# Altium schematic symbol library Diodes_EFR.SchLib: 43 symbols
Pins are listed as number, name and electrical type; pins without a type are passive.

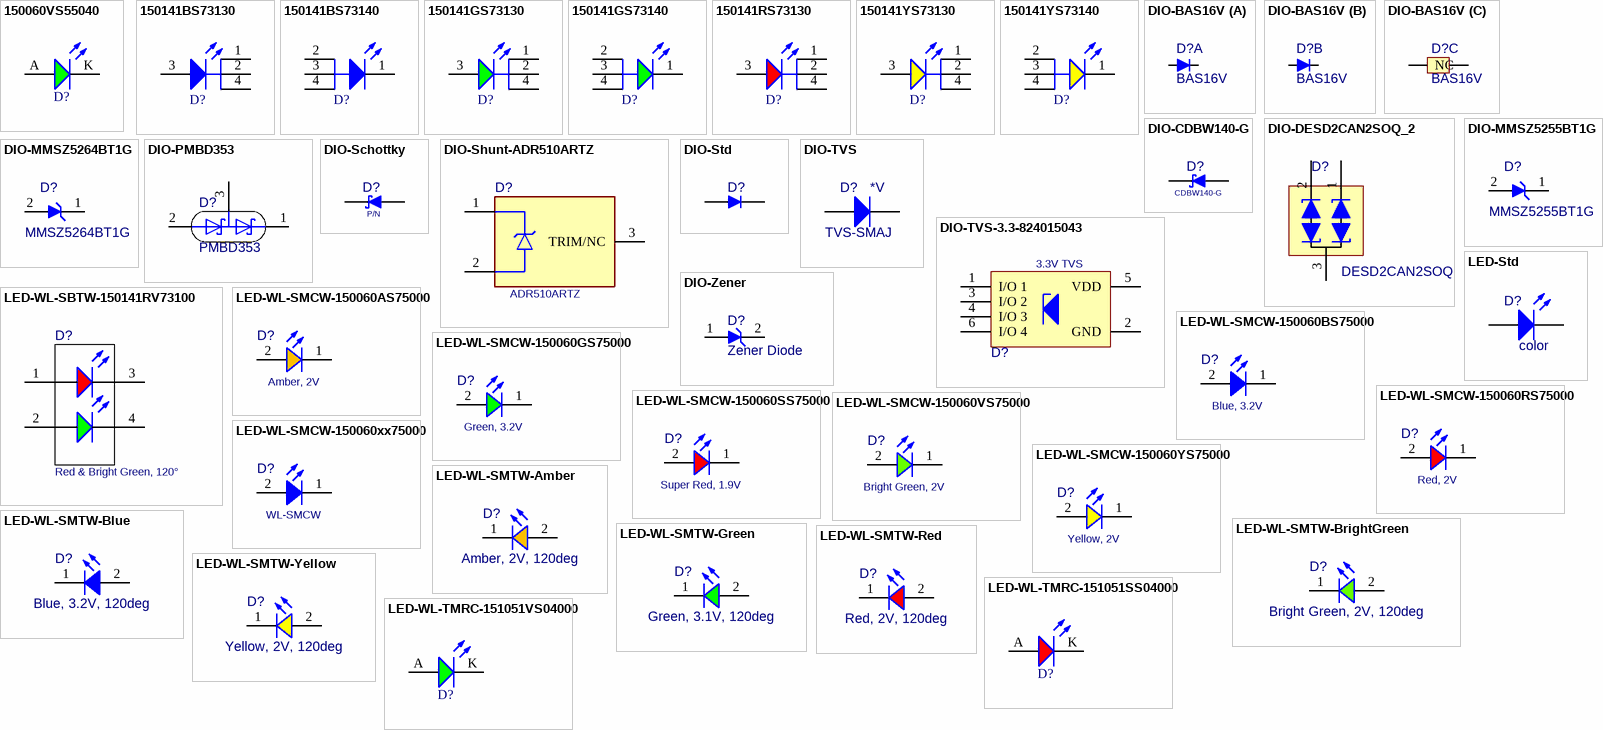
[diagram p0: symbols 150060VS55040 to LED-WL-TMRC-151051VS04000]

## 150060VS55040
designator D?, comment Bright Green, 2V, 140°  (value not drawn)
WL-SMCD Mono-color Chip LED Diffused, SMT, size 0603, Bright Green, 2V, 140°; Manufacturer Part Number: 150060VS55040; Manufacturer: Wurth Elektronik; Case/Size Code: 0603; Chip Technology: AlInGaP; Dominant Wavelength: 573nm; Luminous Intensity: 60mcd; Peak Wavelength: 575nm; Category: Signal LEDs; Match Code: WL-SMCD; ComponentLink1Description: Website Link; ComponentLink1URL: https://www.we-online.com/redexpert/article/150060VS55040?ad; ComponentLink2Description: Datasheet Link; ComponentLink2URL: https://www.we-online.com/redexpert/spec/150060VS55040?ad; Mount: Surface Mount; Operating Temperature Max: 85°C; Operating Temperature Min: -40°C; Packaging: Tape and Reel; Length: 1.6mm; Width: 0.8mm; Height: 0.4mm; Emitting Color: Bright Green; Forward Voltage: 2V; Viewing Angle: 140°
footprint WL-SMCD_0603 (SMD Mono-color Chip LED, body 1.6x0.8mm)
pins: A, K

## 150141BS73130
designator D?, comment Blue, 3.2V, 120°  (value not drawn)
WL-SMTW Mono-color TOP LED Waterclear, size 3528, Blue, 3.2V, 120°; Manufacturer Part Number: 150141BS73130; Manufacturer: Wurth Elektronik; Case/Size Code: 3528; Chip Technology: InGaN; Dominant Wavelength: 470nm; Luminous Intensity: 1000mcd; Peak Wavelength: 465nm; Category: Signal LEDs; Match Code: WL-SMTW; ComponentLink1Description: Website Link; ComponentLink1URL: https://www.we-online.com/redexpert/article/150141BS73130?ad; ComponentLink2Description: Datasheet Link; ComponentLink2URL: https://www.we-online.com/redexpert/spec/150141BS73130?ad; Mount: Surface Mount; Operating Temperature Max: 85°C; Operating Temperature Min: -40°C; Packaging: Tape and Reel; Length: 3.5mm; Width: 2.8mm; Height: 1.85mm; Emitting Color: Blue; Forward Voltage: 3.2V; Viewing Angle: 120°
footprint WL-SMTW_3528_LPCC 4
simulation model 3528_150141BS73130
pins: 1 K, 2 K, 3 A, 4 K

## 150141BS73140
designator D?, comment Blue, 3.2V, 120°  (value not drawn)
WL-SMTW Mono-color TOP LED Waterclear, size 3528, Blue, 3.2V, 120°; Manufacturer Part Number: 150141BS73140; Manufacturer: Wurth Elektronik; Case/Size Code: 3528; Chip Technology: InGaN; Dominant Wavelength: 470nm; Luminous Intensity: 1000mcd; Peak Wavelength: 465nm; Category: Signal LEDs; Match Code: WL-SMTW; ComponentLink1Description: Website Link; ComponentLink1URL: https://www.we-online.com/redexpert/article/150141BS73140?ad; ComponentLink2Description: Datasheet Link; ComponentLink2URL: https://www.we-online.com/redexpert/spec/150141BS73140?ad; Mount: Surface Mount; Operating Temperature Max: 85°C; Operating Temperature Min: -40°C; Packaging: Tape and Reel; Length: 3.5mm; Width: 2.8mm; Height: 1.85mm; Emitting Color: Blue; Forward Voltage: 3.2V; Viewing Angle: 120°
footprint WL-SMTW_3528_LPCC 4
simulation model 3528_150141BS73140
pins: 1 K, 2 A, 3 A, 4 A

## 150141GS73130
designator D?, comment Green, 3.2V, 120°  (value not drawn)
WL-SMTW Mono-color TOP LED Waterclear, size 3528, Green, 3.2V, 120°; Manufacturer Part Number: 150141GS73130; Manufacturer: Wurth Elektronik; Case/Size Code: 3528; Chip Technology: InGaN; Dominant Wavelength: 520nm; Luminous Intensity: 5000mcd; Peak Wavelength: 515nm; Category: Signal LEDs; Match Code: WL-SMTW; ComponentLink1Description: Website Link; ComponentLink1URL: https://www.we-online.com/redexpert/article/150141GS73130?ad; ComponentLink2Description: Datasheet Link; ComponentLink2URL: https://www.we-online.com/redexpert/spec/150141GS73130?ad; Mount: Surface Mount; Operating Temperature Max: 85°C; Operating Temperature Min: -40°C; Packaging: Tape and Reel; Length: 3.5mm; Width: 2.8mm; Height: 1.85mm; Emitting Color: Green; Forward Voltage: 3.2V; Viewing Angle: 120°
footprint WL-SMTW_3528_LPCC 4
simulation model 3528_150141GS73130
pins: 1 K, 2 K, 3 A, 4 K

## 150141GS73140
designator D?, comment Green, 3.2V, 120°  (value not drawn)
WL-SMTW Mono-color TOP LED Waterclear, size 3528, Green, 3.2V, 120°; Manufacturer Part Number: 150141GS73140; Manufacturer: Wurth Elektronik; Case/Size Code: 3528; Chip Technology: InGaN; Dominant Wavelength: 520nm; Luminous Intensity: 5000mcd; Peak Wavelength: 515nm; Category: Signal LEDs; Match Code: WL-SMTW; ComponentLink1Description: Website Link; ComponentLink1URL: https://www.we-online.com/redexpert/article/150141GS73140?ad; ComponentLink2Description: Datasheet Link; ComponentLink2URL: https://www.we-online.com/redexpert/spec/150141GS73140?ad; Mount: Surface Mount; Operating Temperature Max: 85°C; Operating Temperature Min: -40°C; Packaging: Tape and Reel; Length: 3.5mm; Width: 2.8mm; Height: 1.85mm; Emitting Color: Green; Forward Voltage: 3.2V; Viewing Angle: 120°
footprint WL-SMTW_3528_LPCC 4
simulation model 3528_150141GS73140
pins: 1 K, 2 A, 3 A, 4 A

## 150141RS73130
designator D?, comment Red, 2.4V, 120°  (value not drawn)
WL-SMTW Mono-color TOP LED Waterclear, size 3528, Red, 2.4V, 120°; Manufacturer Part Number: 150141RS73130; Manufacturer: Wurth Elektronik; Case/Size Code: 3528; Chip Technology: AlInGaP; Dominant Wavelength: 620nm; Luminous Intensity: 3000mcd; Peak Wavelength: 630nm; Category: Signal LEDs; Match Code: WL-SMTW; ComponentLink1Description: Website Link; ComponentLink1URL: https://www.we-online.com/redexpert/article/150141RS73130?ad; ComponentLink2Description: Datasheet Link; ComponentLink2URL: https://www.we-online.com/redexpert/spec/150141RS73130?ad; Mount: Surface Mount; Operating Temperature Max: 85°C; Operating Temperature Min: -40°C; Packaging: Tape and Reel; Length: 3.5mm; Width: 2.8mm; Height: 1.85mm; Emitting Color: Red; Forward Voltage: 2.4V; Viewing Angle: 120°
footprint WL-SMTW_3528_LPCC 4
simulation model 3528_150141RS73130
pins: 1 K, 2 K, 3 A, 4 K

## 150141YS73130
designator D?, comment Yellow, 2.4V, 120°  (value not drawn)
WL-SMTW Mono-color TOP LED Waterclear, size 3528, Yellow, 2.4V, 120°; Manufacturer Part Number: 150141YS73130; Manufacturer: Wurth Elektronik; Case/Size Code: 3528; Chip Technology: AlInGaP; Dominant Wavelength: 590nm; Luminous Intensity: 2000mcd; Peak Wavelength: 592nm; Category: Signal LEDs; Match Code: WL-SMTW; ComponentLink1Description: Website Link; ComponentLink1URL: https://www.we-online.com/redexpert/article/150141YS73130?ad; ComponentLink2Description: Datasheet Link; ComponentLink2URL: https://www.we-online.com/redexpert/spec/150141YS73130?ad; Mount: Surface Mount; Operating Temperature Max: 85°C; Operating Temperature Min: -40°C; Packaging: Tape and Reel; Length: 3.5mm; Width: 2.8mm; Height: 1.85mm; Emitting Color: Yellow; Forward Voltage: 2.4V; Viewing Angle: 120°
footprint WL-SMTW_3528_LPCC 4
simulation model 3528_150141YS73130
pins: 1 K, 2 K, 3 A, 4 K

## 150141YS73140
designator D?, comment Yellow, 2.4V, 120°  (value not drawn)
WL-SMTW Mono-color TOP LED Waterclear, size 3528, Yellow, 2.4V, 120°; Manufacturer Part Number: 150141YS73140; Manufacturer: Wurth Elektronik; Case/Size Code: 3528; Chip Technology: AlInGaP; Dominant Wavelength: 590nm; Luminous Intensity: 2000mcd; Peak Wavelength: 592nm; Category: Signal LEDs; Match Code: WL-SMTW; ComponentLink1Description: Website Link; ComponentLink1URL: https://www.we-online.com/redexpert/article/150141YS73140?ad; ComponentLink2Description: Datasheet Link; ComponentLink2URL: https://www.we-online.com/redexpert/spec/150141YS73140?ad; Mount: Surface Mount; Operating Temperature Max: 85°C; Operating Temperature Min: -40°C; Packaging: Tape and Reel; Length: 3.5mm; Width: 2.8mm; Height: 1.85mm; Emitting Color: Yellow; Forward Voltage: 2.4V; Viewing Angle: 120°
footprint WL-SMTW_3528_LPCC 4
simulation model 3528_150141YS73140
pins: 1 K, 2 A, 3 A, 4 A

## DIO-BAS16V
designator D?, comment BAS16V
Dual surface mount switching diode; PartNumber: BAS16V-7; Manufacturer: Diodes Incorporated; ComponentLink1Description: Datasheet; ComponentLink1URL: https://www.diodes.com/assets/Datasheets/ds30447.pdf; ComponentLink2Description: Manufacturer; ComponentLink2URL: https://www.diodes.com/part/view/BAS16V; Current (A): *; Resistance: *; Voltage (V): *; Type: *; Value: *; Tolerance: *; Power (W): *; Packaging: SOT-563; Capacitance: *
footprint SOT-5X3/SOT-563_L_(DRL6)
footprint SOT-5X3/SOT-563_N_(DRL6)
footprint SOT-5X3/SOT-563_M_(DRL6)
part A pins: 1 A1 "Anode1", 6 C1 "Kathode1"
part B pins: 3 C2 "Kathode2", 4 A2 "Anode2"
part C pins: 2 NC, 5 NC

## DIO-CDBW140-G
designator D?  PartNumber: CDBW140-G
DIODE SCHOTTKY 40V 1A SOD123; Manufacturer: Comchip; PinNumber: 2; Current (A): 1; Voltage (V): 40; Package: *; Resistance: *; Forward Current: *; Reverse Standoff Voltage (V): *; Breakdown Voltage (V): *; Clamping Voltage (V): *; Type: Schottky; Power (W): *; Tolerance: *; Capacitance: *; Supplier 1: Mouser; Manufacturer Part Number: CDBW140-G; RoHS: Yes; Category: Rectifier Diodes; Stock 1: 13668; Pricing 1: 1=0,41000, 10=0,26600, 50=0,26600, 100=0,11400, 1000=0,08200, 3000=0,06200, 10000=0,06200 (USD); Mount: Surface Mount; Package Quantity: 1; Packaging: Tape and Reel; Average Rectified Current: 1A; Max Reverse Voltage (DC): 40V; RoHS Compliant: Yes; ComponentLink1URL: https://datasheet.ciiva.com/6385/cdbw120-g20thru938266-20cdbw140-g20revd-6385394.pdf?src-supplier=Digi-Key; ComponentLink1Description: https://datasheet.ciiva.com/6385/cdbw120-g20thru938266-20cdbw140-g20revd-6385394.pdf?src-supplier=Digi-Key; Supplier 2: Digi-Key; Supplier Part Number 1: 750-CDBW140-G; Supplier Part Number 2: 641-1458-1-ND
footprint SOD-123
pins: 1, 2

## DIO-DESD2CAN2SOQ_2
designator D?, comment DESD2CAN2SOQ
CAN bus ESD protection diode; Manufacturer: Diodes Incorporated; Capacitance: 25pF; Voltage (V): 24; Clamping Voltage (V): 34; Breakdown Voltage (V): 28; Resistance: *; PartNumber: DESD2CAN2SOQ; Current (A): *; Power (W): *; Tolerance: *; Type: Diode; Value: *; Parameter 13: *; Reverse Standoff Voltage (V): 24; ComponentLink1Description: Datasheet; ComponentLink1URL: https://www.diodes.com/assets/Datasheets/DESD2CAN2SOQ.pdf
footprint SOT23 (generischer SOT23 Footpint)
pins: 1, 2, 3

## DIO-MMSZ5255BT1G
designator D?, comment MMSZ5255BT1G
MMSZ5255BT1 Series 500 mW 10 mA 28 V SMT Zener Voltage Regulator - SOD-123; Manufacturer: ON Semiconductor; Zener Voltage: 28V; Material: Plastic; Voltage Tolerance: 5%; Test Current: 2.1mA; Element Configuration: Single; ESD Protection: Yes; Max Power Dissipation: 500mW; Impedance: 44R; Max Reverse Leakage Current: 100nA; Forward Voltage: 900mV; Zener Current: 10mA; PartNumber: MMSZ5255BT1G; Category: Zener Diodes; Stock 1: 60719; Pricing 1: 1=0,24000, 10=0,19400, 100=0,10270, 500=0,06758, 1000=0,04595 (USD); Case/Package: SOD-123-2; Number of Pins: 2; Contact Plating: Tin,Matte; Min Operating Temperature: -55°C; Max Operating Temperature: 150°C; Packaging: Tape and Reel; Package Quantity: 1; Length: 2.84mm; Width: 1.8mm; Height: 1.25mm; Radiation Hardening: No; Lead Free: Lead Free; RoHS Compliant: Yes; ComponentLink1URL: https://www.onsemi.com/products/discrete-power-modules/zener-diodes/mmsz52; ComponentLink1Description: Manufacturer; ComponentLink2URL: https://www.onsemi.com/pdf/datasheet/mmsz5221bt1-d.pdf; ComponentLink2Description: Datasheet; ComponentLink3URL: https://www.onsemi.com/products/discrete-power-modules/zener-diodes/mmsz52?pdf=Y; ComponentLink3Description: Product Overview; Supplier 1: Digi-Key; Supplier 2: Mouser; REACH SVHC: No SVHC; Tolerance: 5%; Voltage Rating (DC): 28V; Power Rating: 500mW; Power Dissipation: 500mW; Working Voltage: 28V; Max Reverse Current: 100nA; RoHS: Yes; Supplier Part Number 1: MMSZ5255BT1GOSCT-ND; Supplier Part Number 2: 863-MMSZ5255BT1G
footprint SOD-123-2 (1 marked) (SOD, 2-Leads, Body 2.69x1.6mm)
pins: 1 C, 2 A

## DIO-MMSZ5264BT1G
designator D?, comment MMSZ5264BT1G
Zener Diode 60V 500mW ±5% Surface Mount SOD-123; Manufacturer: ON Semiconductor; Material: Plastic; Impedance: 170R; Forward Voltage: 900mV; Max Reverse Leakage Current: 100nA; Zener Current: 10mA; Test Current: 2.1mA; Element Configuration: Single; ESD Protection: Yes; Supplier 1: Arrow Electronics; PartNumber: MMSZ5264BT1G; RoHS: Yes; Category: Zener Diodes; Stock 1: 144; Pricing 1: 1=0,21510, 10=0,17860, 25=0,17810, 100=0,09820 (USD); Case/Package: SOD-123-2; Number of Pins: 2; Contact Plating: Tin,Matte; Min Operating Temperature: -55°C; Max Operating Temperature: 150°C; Tolerance: 5%; Max Power Dissipation: 500mW; Packaging: Tape and Reel; Zener Voltage: 60V; Package Quantity: 1; Voltage Tolerance: 5%; Power Dissipation: 500mW; Working Voltage: 60V; Max Reverse Current: 100nA; Voltage Rating (DC): 60V; Power Rating: 500mW; Length: 2.84mm; Width: 1.8mm; Height: 1.25mm; Radiation Hardening: No; Lead Free: Lead Free; RoHS Compliant: Yes; ComponentLink1URL: https://www.onsemi.com/products/discrete-power-modules/zener-diodes/mmsz52; ComponentLink1Description: Manufacturer; ComponentLink2URL: https://www.onsemi.com/pdf/datasheet/mmsz5221bt1-d.pdf; ComponentLink2Description: Datasheet; ComponentLink3URL: https://www.onsemi.com/products/discrete-power-modules/zener-diodes/mmsz52?pdf=Y; ComponentLink3Description: Product Overview; Supplier Part Number 1: MMSZ5264BT1G
footprint SOD-123-2 (1 marked) (SOD, 2-Leads, Body 2.69x1.6mm)
pins: 1 C, 2 A

## DIO-PMBD353
designator D?, comment PMBD353
RF Diode Schottky - 1 Pair Series Connection 4V 30mA TO-236AB; Manufacturer: NXP Semiconductors; PartNumber: PMBD353; Value: *; SnapEDA_Link: https://www.snapeda.com/parts/PMBD353/NXP%20Semiconductors/view-part/571374/?ref=snap; Price: None; Availability: Unavailable; Package: SOT-23 NXP Semiconductors; ComponentLink1Description: Datasheet; ComponentLink1URL: https://assets.nexperia.com/documents/data-sheet/PMBD353.pdf; ComponentLink2Description: Manufacturer; ComponentLink2URL: https://www.nexperia.com/products/diodes/automotive-diodes/automotive-schottky-diodes-and-rectifiers/automotive-low-capacitance-schottky-diodes/PMBD353.html
footprint SOT23 (generischer SOT23 Footpint)
pins: 1 K2, 2 A2, 3 K1A2

## DIO-Schottky
designator D?, comment Manufacturer P/N: P/N  (hidden comment: Schottky)
Schottky Diode; PinNumber: 2; Package: *; Resistance: *; Forward Current: *; Reverse Standoff Voltage (V): *; Breakdown Voltage (V): *; Clamping Voltage (V): *; Current (A): *; Type: Schottky; Voltage (V): *; Power (W): *; Tolerance: *; Capacitance: *; Manufacturer: *
footprint SOD-123W
footprint SOD-123F
footprint SOD-323 (SOD, 2-Leads, Body 1.7x1.25mm)
pins: 1, 2

## DIO-Shunt-ADR510ARTZ
designator D?, comment ADR510ARTZ
1.0V Precision Low Noise Shunt Voltage Reference ±0.35% 10 mA SOT-23-3; Manufacturer: Analog Devices; Pin Number: 3; Package: SOT-23; Manufacturer P/N: ADR510ARTZ; ComponentLink1Description: Website; ComponentLink1URL: https://www.analog.com/en/products/adr510.html; ComponentLink2Description: Datasheet; ComponentLink2URL: https://www.analog.com/media/en/technical-documentation/data-sheets/ADR510.pdf; ComponentLink3Description: SnapEDA; ComponentLink3URL: https://www.snapeda.com/parts/ADR510ARTZ-REEL7/Analog%20Devices/view-part/; Mounting Technology: SMT; Supplier 1: Mouser; Supplier Part Number 1: 584-ADR510ARTZ-R7; Supplier 2: Mouser; Supplier Part Number 2: 584-ADR510ARTZ-R2
footprint SOT23 (generischer SOT23 Footpint)
pins: 1 V+, 2 V-, 3 TRIM/NC

## DIO-Std
designator D?, comment Diode  (value not drawn)
Diode, allg.; PinNumber: 2; Package: *; Type: *; Tolerance: *; Power (W): *; Current (A): *; Voltage (V): *; Reverse Standoff Voltage (V): *; Clamping Voltage (V): *; Breakdown Voltage (V): *; Resistance: *; Capacitance: *
footprint SOD-123
footprint SOD-123W
footprint SMA-DO-214AC (Molded Diode, 2-Leads, Body 4,3x2,7mm, IPC Medium Density)
footprint SOD-123F
pins: 1 "Anode", 2 "Cathode"

## DIO-TVS
designator D?, comment TVS-SMAJ  VWM (V): *V
Manufacturer: Vishay Semiconductor; VBR Uni-Directional (V): 6.4 to 231; IFSM: 40 A; ID (uA): 1; Packing: Tape and Reel; PPPM (W): 400, 300; Mounting Technology: SMT; ComponentLink3URL: http://www.vishay.com/docs/88390/smaj50a.pdf; ComponentLink1Description: Manufacturer URL; ComponentLink1URL: http://www.vishay.com/; PackageDescription: 2-Pin DO-214AC (SMA), Body 4.245 x 2.665 mm; PackageReference: DO-214AC-2; ComponentLink3Description: Package Specification; ComponentLink2Description: Datasheet; ComponentLink2URL: http://www.vishay.com/docs/88390/smaj50a.pdf; Power (W): *; Current (A): *; Capacitance: *; Voltage (V): *; Tolerance: *; Type: *; Resistance: *; Value: *
footprint DO-214AC-2_L (DO-214AC, 2-Leads, Body 4.5x2.79mm, IPC High Density)
footprint DO-214AC-2_N (DO-214AC, 2-Leads, Body 4.5x2.79mm, IPC Medium Density)
footprint DO-214AC-2_M (DO-214AC, 2-Leads, Body 4.5x2.79mm, IPC Low Density)
pins: 1 K, 2 A

## DIO-TVS-3.3-824015043
designator D?, comment 3.3V TVS
WE-TVS TVS Diode – High Speed Series, SOT23-6L, 4+1 Channel, 3.3V, 2pF; Manufacturer P/N: 824015043; Manufacturer: Wurth Elektronik; Channel ESD Clamping Voltage: 7.5V; Channel Reverse Leakage Current: 1µA; ESD Air Discharge Capability: 30kV; Polarity: Unidirectional; (Reverse) Breakdown Voltage: 4.5V; (Reverse) Peak Pulse Current: 30A; ComponentLink1Description: Website Link; ComponentLink1URL: https://www.we-online.com/redexpert/article/824015043?ad; ComponentLink2Description: Datasheet Link; ComponentLink2URL: https://www.we-online.com/redexpert/spec/824015043?ad; Category: ESD Protection; Match Code: WE-TVS; Mounting Technology: SMT; Operating Temperature Max: 125°C; Operating Temperature Min: -55°C; Packaging: Tape and Reel; Case/Size Code: SOT23-6L; Length: 2.9mm; Width: 2.8mm; Height: 1.45mm; Channel Input Capacitance: 2pF; Channel Operating Voltage: 3.3V; ESD Contact Discharge Capability: 30kV; Number of Channels: 4+1
footprint SOT23-6_L
footprint SOT23-6_M
footprint SOT23-6_N
pins: 1 I/O 1, 2 GND, 3 I/O 2, 4 I/O 3, 5 VDD, 6 I/O 4

## DIO-Zener
designator D?, comment Zener Diode
Manufacturer P/N: *; Packaging: *; Manufacturer: *; Power (W): *; Current (A): *; Voltage (V): *; Type: Zener; Tolerance: *; Capacitance: *; Resistance: *; Value: *; Clamping Voltage (V): *; Breakdown Voltage (V): *; Reverse Standoff Voltage (V): *
footprint SOD-323 (Footprint not found)
footprint SODFL2513X70N
footprint DO-219AC
footprint SMA-DO-214AC (Molded Diode, 2-Leads, Body 4,3x2,7mm, IPC Medium Density)
pins: 1 A, 2 K

## LED-Std
designator D?
LED; Manufacturer: *; Manufacturer P/N: *; Value: *; Current (A): *; Power (W): *; Type: LED; Voltage (V): *; Resistance: *; Capacitance: *; Tolerance: *; Reverse Standoff Voltage (V): *; Breakdown Voltage (V): *; Clamping Voltage (V): *; Color: color
footprint 0603_L
footprint 0603_N
footprint 0603_M
footprint 0805_L
footprint 0805_N
footprint 0805_M
pins: 1 K, 2 A

## LED-WL-SBTW-150141RV73100
designator D?, comment Red & Bright Green, 120°
WL-SBTW SMT Bi-color TOP LED Waterclear, size 3528, Red & Bright Green, 120°; Manufacturer P/N: 150141RV73100; Manufacturer: Wurth Elektronik; Case/Size Code: 3528; Chip Technology: AlInGaP; Dominant Wavelength (Bright Green): 570nm; Dominant Wavelength (Red): 625nm; Forward Voltage (Bright Green): 2V; Luminous Intensity (Bright Green): 60mcd; Luminous Intensity (Red): 250mcd; Peak Wavelength (Bright Green): 572nm; Peak Wavelength (Red): 630nm; Category: Signal LEDs; Series: WL-SBTW; ComponentLink1Description: Website Link; ComponentLink1URL: https://www.we-online.com/redexpert/article/150141RV73100?ad; ComponentLink2Description: Datasheet Link; ComponentLink2URL: https://www.we-online.com/redexpert/spec/150141RV73100?ad; Mounting Technology: SMT; Operating Temperature Max: 85°C; Operating Temperature Min: -40°C; Packaging: Tape and Reel; Length: 3.5mm; Width: 2.8mm; Height: 1.9mm; Color: Red & Bright Green; Forward Voltage (Red): 2V; Viewing Angle: 120°
footprint WL-SBTW_3528 (SMD Bi-color TOP LED, body 3.2x2.8mm)
simulation model 3528_150141RV73100
pins: 1 A, 2 A, 3 K, 4 K

## LED-WL-SMCW-150060AS75000
designator D?, comment Amber, 2V
WL-SMCW SMT Mono-color Chip LED Waterclear, size 0603, Amber, 2V, 140deg; PartNumber: 150060AS75000; Manufacturer: Wurth Elektronik; Chip Technology: AlInGaP; Dominant Wavelength typ.: 605nm; Luminous Intensity typ.: 130mcd; Peak Wavelength typ.: 610nm; Viewing Angle: 140deg; ComponentLink1Description: Manufacturer; ComponentLink1URL: http://www.we-online.de; ComponentLink2URL: https://www.we-online.com/catalog/datasheet/150060AS75000.pdf; ComponentLink2Description: Datasheet; Forward Voltage typ.: 2V; Emitting Color: Amber; Mounting Technology: SMT; Operating Temperature: -40 to +85degC; Published Date: December 2019; Packaging: Tape and Reel; Size: 0603
footprint LED_WL-SMCW_0603_H=0.7mm (SMD Mono-color Chip LED, body 1.6x0.8mm)
pins: 1 K, 2 A

## LED-WL-SMCW-150060BS75000
designator D?, comment Blue, 3.2V
WL-SMCW SMT Mono-color Chip LED Waterclear, size 0603, Blue, 3.2V, 140deg; PartNumber: 150060BS75000; Manufacturer: Wurth Elektronik; Chip Technology: InGaN; Dominant Wavelength typ.: 470nm; Luminous Intensity typ.: 145mcd; Peak Wavelength typ.: 465nm; Viewing Angle: 140deg; ComponentLink1Description: Manufacturer; ComponentLink1URL: http://www.we-online.de; ComponentLink2URL: https://www.we-online.com/catalog/datasheet/150060BS75000.pdf; ComponentLink2Description: Datasheet; Forward Voltage typ.: 3.2V; Emitting Color: Blue; Mounting Technology: SMT; Operating Temperature: -40 to +85degC; Published Date: December 2019; Packaging: Tape and Reel; Size: 0603
footprint LED_WL-SMCW_0603_H=0.7mm (SMD Mono-color Chip LED, body 1.6x0.8mm)
pins: 1 K, 2 A

## LED-WL-SMCW-150060GS75000
designator D?, comment Green, 3.2V
WL-SMCW SMT Mono-color Chip LED Waterclear, size 0603, Green, 3.2V, 140deg; Part Number: 150060GS75000; Manufacturer: Wurth Elektronik; Chip Technology: InGaN; Dominant Wavelength typ.: 525nm; Luminous Intensity typ.: 430mcd; Peak Wavelength typ.: 515nm; Viewing Angle: 140deg; ComponentLink1Description: Manufacturer; ComponentLink1URL: http://www.we-online.de; ComponentLink2URL: https://www.we-online.com/catalog/datasheet/150060GS75000.pdf; ComponentLink2Description: Datasheet; Forward Voltage typ.: 3.2V; Emitting Color: Green; Mounting Technology: SMT; Operating Temperature: -40 to +85degC; Published Date: December 2019; Packaging: Tape and Reel; Size: 0603
footprint LED_WL-SMCW_0603_H=0.7mm (SMD Mono-color Chip LED, body 1.6x0.8mm)
pins: 1 K, 2 A

## LED-WL-SMCW-150060RS75000
designator D?, comment Red, 2V
WL-SMCW SMT Mono-color Chip LED Waterclear, size 0603, Red, 2V, 140deg; PartNumber: 150060RS75000; Manufacturer: Wurth Elektronik; Chip Technology: AlInGaP; Dominant Wavelength typ.: 625nm; Luminous Intensity typ.: 250mcd; Peak Wavelength typ.: 630nm; Viewing Angle: 140deg; ComponentLink1Description: Manufacturer; ComponentLink1URL: http://www.we-online.de; ComponentLink2URL: https://www.we-online.com/catalog/datasheet/150060RS75000.pdf; ComponentLink2Description: Datasheet; Forward Voltage typ.: 2V; Emitting Color: Red; Mounting Technology: SMT; Operating Temperature: -40 to +85degC; Published Date: December 2019; Packaging: Tape and Reel; Size: 0603
footprint LED_WL-SMCW_0603_H=0.7mm (SMD Mono-color Chip LED, body 1.6x0.8mm)
pins: 1 K, 2 A

## LED-WL-SMCW-150060SS75000
designator D?, comment Super Red, 1.9V
WL-SMCW SMT Mono-color Chip LED Waterclear, size 0603, Super Red, 1.9V, 140deg; PartNumber: 150060SS75000; Manufacturer: Wurth Elektronik; Chip Technology: AlInGaP; Dominant Wavelength typ.: 630nm; Luminous Intensity typ.: 60mcd; Peak Wavelength typ.: 645nm; Viewing Angle: 140deg; ComponentLink1Description: Manufacturer; ComponentLink1URL: http://www.we-online.de; ComponentLink2URL: https://www.we-online.com/catalog/datasheet/150060SS75000.pdf; ComponentLink2Description: Datasheet; Forward Voltage typ.: 1.9V; Emitting Color: Super Red; Mounting Technology: SMT; Operating Temperature: -40 to +85degC; Published Date: December 2019; Packaging: Tape and Reel; Size: 0603
footprint LED_WL-SMCW_0603_H=0.7mm (SMD Mono-color Chip LED, body 1.6x0.8mm)
pins: 1 K, 2 A

## LED-WL-SMCW-150060VS75000
designator D?, comment Bright Green, 2V
WL-SMCW SMT Mono-color Chip LED Waterclear, size 0603, Bright Green, 2V, 140deg; Part Number: 150060VS75000; Manufacturer: Wurth Elektronik; Chip Technology: AlInGaP; Dominant Wavelength typ.: 570nm; Luminous Intensity typ.: 40mcd; Peak Wavelength typ.: 572nm; Viewing Angle: 140deg; ComponentLink1Description: Manufacturer; ComponentLink1URL: http://www.we-online.de; ComponentLink2URL: https://www.we-online.com/catalog/datasheet/150060VS75000.pdf; ComponentLink2Description: Datasheet; Forward Voltage typ.: 2V; Emitting Color: Bright Green; Mounting Technology: SMT; Operating Temperature: -40 to +85degC; Published Date: December 2019; Packaging: Tape and Reel; Size: 0603
footprint LED_WL-SMCW_0603_H=0.7mm (SMD Mono-color Chip LED, body 1.6x0.8mm)
pins: 1 K, 2 A

## LED-WL-SMCW-150060xx75000
designator D?, comment WL-SMCW
WL-SMCW SMT Mono-color Chip LED Waterclear, size 0603, Universal LED, 140deg; PartNumber: 150060xx75000; Manufacturer: Wurth Elektronik; Chip Technology: InGaN; Dominant Wavelength typ.: 470nm; Luminous Intensity typ.: 145mcd; Peak Wavelength typ.: 465nm; Viewing Angle: 140deg; ComponentLink1Description: Manufacturer; ComponentLink1URL: http://www.we-online.de; ComponentLink2URL: https://www.we-online.com/catalog/datasheet/150060BS75000.pdf; ComponentLink2Description: Datasheet; Forward Voltage typ.: *; Emitting Color: *; Mounting Technology: SMT; Operating Temperature: -40 to +85degC; Published Date: December 2019; Packaging: Tape and Reel; Size: 0603; Voltage (V): *
footprint LED_WL-SMCW_0603_H=0.7mm (SMD Mono-color Chip LED, body 1.6x0.8mm)
pins: 1 K, 2 A

## LED-WL-SMCW-150060YS75000
designator D?, comment Yellow, 2V
WL-SMCW SMT Mono-color Chip LED Waterclear, size 0603, Yellow, 2V, 140deg; Part Number: 150060YS75000; Manufacturer: Wurth Elektronik; Chip Technology: AlInGaP; Dominant Wavelength typ.: 590nm; Luminous Intensity typ.: 120mcd; Peak Wavelength typ.: 595nm; Viewing Angle: 140deg; ComponentLink1Description: Manufacturer; ComponentLink1URL: http://www.we-online.de; ComponentLink2URL: https://www.we-online.com/catalog/datasheet/150060YS75000.pdf; ComponentLink2Description: Datasheet; Forward Voltage typ.: 2V; Emitting Color: Yellow; Mounting Technology: SMT; Operating Temperature: -40 to +85degC; Published Date: December 2019; Packaging: Tape and Reel; Size: 0603
footprint LED_WL-SMCW_0603_H=0.7mm (SMD Mono-color Chip LED, body 1.6x0.8mm)
pins: 1 K, 2 A

## LED-WL-SMTW-Amber
designator D?, comment Amber, 2V, 120deg
WL-SMTW SMT Mono-color TOP LED Waterclear, Amber, 2V, 120deg; PartNumber: 150141AS73100; Manufacturer: Wurth Elektronik; Luminous Intensity: 330mcd; Dominant Wavelength: 605nm; Peak Wavelength: 610nm; Chip Technology: AlInGaP; ComponentLink1Description: Manufacturer; ComponentLink1URL: http://www.we-online.de; ComponentLink2Description: Datasheet; ComponentLink2URL: https://katalog.we-online.de/led/datasheet/150141AS73100.pdf; Emitting Color: Amber; Operating Temperature: -40 to +85degC; Mounting Technology: SMT; Forward Voltage (V): 2V; Published Date: October 2019; Viewing Angle: 120deg; Type: *; Resistance: *; Power (W): *; Current (A): *; Voltage (V): 2V; Capacitance: *; Tolerance: *; Value: Amber
footprint WL-SMTW_1411(3528) (SMD Mono-color TOP LED, body 3.2x2.8mm)
footprint WL-SMTW_0906(2214) (SMD Mono-color TOP LED, body 2x1.4mm)
footprint WL-SMTW_1411(3528)_Advance (SMD Mono-color TOP LED, body 3.2x2.8mm)
pins: 1 K, 2 A

## LED-WL-SMTW-Blue
designator D?, comment Blue, 3.2V, 120deg
WL-SMTW SMT Mono-color TOP LED Waterclear, Blue, 3.2V, 120deg; PartNumber: 150141BS73100; Manufacturer: Wurth Elektronik; Luminous Intensity: 270mcd; Dominant Wavelength: 470nm; Peak Wavelength: 465nm; Chip Technology: InGaN; ComponentLink1Description: Manufacturer; ComponentLink1URL: http://www.we-online.de; ComponentLink2Description: Datasheet; ComponentLink2URL: https://katalog.we-online.de/led/datasheet/150141BS73100.pdf; Emitting Color: Blue; Operating Temperature: -40 to +85degC; Mounting Technology: SMT; Forward Voltage (V): 3.2V; Published Date: October 2019; Viewing Angle: 120deg; Value: Blue; Voltage (V): 3.2V; Capacitance: *; Resistance: *; Power (W): *; Current (A): *; Type: LED; Tolerance: *
footprint WL-SMTW_0906(2214) (SMD Mono-color TOP LED, body 2x1.4mm)
footprint WL-SMTW_1411(3528) (SMD Mono-color TOP LED, body 3.2x2.8mm)
footprint WL-SMTW_1411(3528)_Advance (SMD Mono-color TOP LED, body 3.2x2.8mm)
pins: 1 K, 2 A

## LED-WL-SMTW-BrightGreen
designator D?, comment Bright Green, 2V, 120deg
WL-SMTW SMT Mono-color TOP LED Waterclear, Bright Green, 2V, 120deg; PartNumber: 150141VS73100; Manufacturer: Wurth Elektronik; Luminous Intensity: 90mcd; Dominant Wavelength: 570nm; Peak Wavelength: 572nm; Chip Technology: AlInGaP; ComponentLink1Description: Manufacturer; ComponentLink1URL: http://www.we-online.de; ComponentLink2Description: Datasheet; ComponentLink2URL: https://katalog.we-online.de/led/datasheet/150141VS73100.pdf; Emitting Color: Bright Green; Operating Temperature: -40 to +85degC; Mounting Technology: SMT; Forward Voltage (V): 2V; Published Date: October 2019; Viewing Angle: 120deg; Value: Bright Green; Voltage (V): 2V; Power (W): *; Type: LED; Current (A): *; Resistance: *; Tolerance: *; Capacitance: *
footprint WL-SMTW_0906(2214) (SMD Mono-color TOP LED, body 2x1.4mm)
footprint WL-SMTW_1411(3528) (SMD Mono-color TOP LED, body 3.2x2.8mm)
footprint WL-SMTW_1411(3528)_Advance (SMD Mono-color TOP LED, body 3.2x2.8mm)
pins: 1 K, 2 A

## LED-WL-SMTW-Green
designator D?, comment Green, 3.1V, 120deg
WL-SMTW SMT Mono-color TOP LED Waterclear, Green, 3.1V, 120deg; PartNumber: 150141GS73100; Manufacturer: Wurth Elektronik; Luminous Intensity: 1000mcd; Dominant Wavelength: 525nm; Peak Wavelength: 515nm; Chip Technology: InGaN; ComponentLink1Description: Manufacturer; ComponentLink1URL: http://www.we-online.de; ComponentLink2Description: Datasheet; ComponentLink2URL: https://katalog.we-online.de/led/datasheet/150141GS73100.pdf; Emitting Color: Green; Operating Temperature: -40 to +85degC; Mounting Technology: SMT; Forward Voltage (V): 3.1V; Published Date: October 2019; Viewing Angle: 120deg; Type: LED; Capacitance: *; Tolerance: *; Voltage (V): 3.1V; Power (W): *; Resistance: *; Current (A): *; Value: Green
footprint WL-SMTW_0906(2214) (SMD Mono-color TOP LED, body 2x1.4mm)
footprint WL-SMTW_1411(3528) (SMD Mono-color TOP LED, body 3.2x2.8mm)
footprint WL-SMTW_1411(3528)_Advance (SMD Mono-color TOP LED, body 3.2x2.8mm)
pins: 1 K, 2 A

## LED-WL-SMTW-Red
designator D?, comment Red, 2V, 120deg
WL-SMTW SMT Mono-color TOP LED Waterclear, Red, 2V, 120deg; PartNumber: 150141RS73100; Manufacturer: Wurth Elektronik; Luminous Intensity: 300mcd; Dominant Wavelength: 625nm; Peak Wavelength: 630nm; Chip Technology: AlInGaP; ComponentLink1Description: Manufacturer; ComponentLink1URL: http://www.we-online.de; ComponentLink2Description: Datasheet; ComponentLink2URL: https://katalog.we-online.de/led/datasheet/150141RS73100.pdf; Emitting Color: Red; Operating Temperature: -40 to +85degC; Mounting Technology: SMT; Forward Voltage (V): 2V; Published Date: October 2019; Viewing Angle: 120deg; Tolerance: *; Value: Red; Voltage (V): 2V; Type: LED; Current (A): *; Power (W): *; Capacitance: *; Resistance: *
footprint WL-SMTW_0906(2214) (SMD Mono-color TOP LED, body 2x1.4mm)
footprint WL-SMTW_1411(3528) (SMD Mono-color TOP LED, body 3.2x2.8mm)
footprint WL-SMTW_1411(3528)_Advance (SMD Mono-color TOP LED, body 3.2x2.8mm)
pins: 1 K, 2 A

## LED-WL-SMTW-Yellow
designator D?, comment Yellow, 2V, 120deg
WL-SMTW SMT Mono-color TOP LED Waterclear, Yellow, 2V, 120deg; PartNumber: 150141YS73100; Manufacturer: Wurth Elektronik; Luminous Intensity: 260mcd; Dominant Wavelength: 590nm; Peak Wavelength: 592nm; Chip Technology: AlInGaP; ComponentLink1Description: Manufacturer; ComponentLink1URL: http://www.we-online.de; ComponentLink2Description: Datasheet; ComponentLink2URL: https://katalog.we-online.de/led/datasheet/150141YS73100.pdf; Emitting Color: Yellow; Operating Temperature: -40 to +85degC; Mounting Technology: SMT; Forward Voltage (V): 2V; Published Date: October 2019; Viewing Angle: 120deg; Capacitance: *; Power (W): *; Value: Yellow; Voltage (V): 2V; Resistance: *; Type: LED; Current (A): *; Tolerance: *
footprint WL-SMTW_0906(2214) (SMD Mono-color TOP LED, body 2x1.4mm)
footprint WL-SMTW_1411(3528) (SMD Mono-color TOP LED, body 3.2x2.8mm)
footprint WL-SMTW_1411(3528)_Advance (SMD Mono-color TOP LED, body 3.2x2.8mm)
pins: 1 K, 2 A

## LED-WL-TMRC-151051SS04000
designator D?, comment Super Red, 2.1V, 40°  (value not drawn)
WL-TMRC Mono-color Round Color, THT, D5.9 x H8.7mm, Super Red, 2.1V, 40°; Manufacturer Part Number: 151051SS04000; Manufacturer: Wurth Elektronik; Case/Size Code: 5mm; Chip Technology: AlInGaP; Dominant Wavelength: 635nm; Luminous Intensity: 250mcd; Peak Wavelength: 640nm; Category: Signal LEDs; Match Code: WL-TMRC; ComponentLink1Description: Website Link; ComponentLink1URL: https://www.we-online.com/redexpert/article/151051SS04000?ad; ComponentLink2Description: Datasheet Link; ComponentLink2URL: https://www.we-online.com/redexpert/spec/151051SS04000?ad; Mount: Through Hole; Operating Temperature Max: 85°C; Operating Temperature Min: -40°C; Packaging: Bulk; Height: 8.7mm; Diameter: 5.9mm; Emitting Color: Super Red; Forward Voltage: 2.1V; Viewing Angle: 40°
footprint WL-TMRC_D3.95H5.3 (THT Mono-color Round Color LED, 2-leads)
pins: A, K

## LED-WL-TMRC-151051VS04000
designator D?, comment Bright Green, 2.1V, 40°  (value not drawn)
WL-TMRC Mono-color Round Color, THT, D5.9 x H8.7mm, Bright Green, 2.1V, 40°; Manufacturer Part Number: 151051VS04000; Manufacturer: Wurth Elektronik; Case/Size Code: 5mm; Chip Technology: AlInGaP; Dominant Wavelength: 572nm; Luminous Intensity: 140mcd; Peak Wavelength: 573nm; Category: Signal LEDs; Match Code: WL-TMRC; ComponentLink1Description: Website Link; ComponentLink1URL: https://www.we-online.com/redexpert/article/151051VS04000?ad; ComponentLink2Description: Datasheet Link; ComponentLink2URL: https://www.we-online.com/redexpert/spec/151051VS04000?ad; Mount: Through Hole; Operating Temperature Max: 85°C; Operating Temperature Min: -40°C; Packaging: Bulk; Height: 8.7mm; Diameter: 5.9mm; Emitting Color: Bright Green; Forward Voltage: 2.1V; Viewing Angle: 40°
footprint WL-TMRC_D3.95H5.3 (THT Mono-color Round Color LED, 2-leads)
pins: A, K

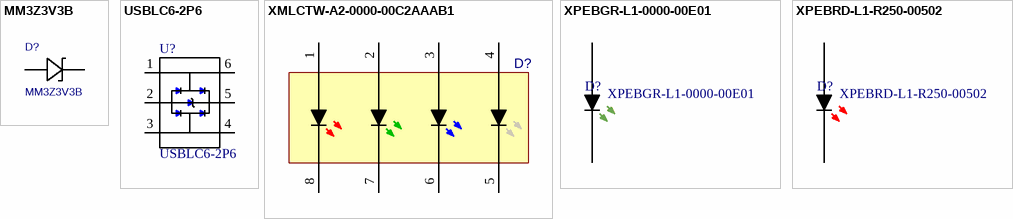
[diagram p1: symbols MM3Z3V3B to XPEBRD-L1-R250-00502]

## MM3Z3V3B
designator D?
No Description Available; Mfr_Name: onsemi; Type: DEV; Copyright: Copyright (C) 2022 Ultra Librarian. All rights reserved.; Manufacturer_Part_Number: MM3Z3V3B; RefDes: RefDes
footprint SOD-323FL_477AB_ONS
footprint SOD-323FL_477AB_ONS-L
footprint SOD-323FL_477AB_ONS-M
pins: 1, 2

## USBLC6-2P6
designator U?
17V Clamp 5A _8/20Âµs_ Ipp Tvs Diode Surface Mount SOT-666; MF: STMicroelectronics; SnapEDA_Link: https://www.snapeda.com/parts/USBLC6-2P6/STMicroelectronics/view-part/106846/?ref=snap; Price: None; Package: SOT-563 STMicroelectronics; Availability: Unavailable; MP: USBLC6-2P6; Value: *
footprint SOT50P160X60-6N
pins: 1 I/O1_1 (io), 2 GND (power), 3 I/O2_1 (io), 4 I/O2_2 (io), 5 VBUS (power), 6 I/O1_2 (io)

## XMLCTW-A2-0000-00C2AAAB1
designator D?  (value not drawn)
LED Red 630 / Green 535 / Blue 465 / White 4300K; Manufacturer: Cree, Inc.; Colour: Red/Green/Blue/White; Current (A): 0.350; Luminous Intensity (mcd): 14000; Luminous intensity: 45.7 lm, 87.4 lm, 13.9 lm, 80 lm; PinNumber: 8; Viewing angle: 130°; Voltage (V): 2.25 V, 3.3 V, 3.1 V, 3.1 V; Wavelength/temperature: 630 nm, 535 nm, 465 nm, 4300 K; Lens shape: Dome; Value: Red/Green/Blue/White; Component Link: https://www.mouser.de/ProductDetail/?qs=JjVXkE9rtn3LiD%2FvDfFGZw%3D%3D; Datasheet Link: https://www.mouser.de/datasheet/2/90/XLampXML_Color-1147431.pdf; Package: SMD-8; Type: LED; Size: 5 mm x 5 mm x 3.02 mm; ComponentLink1Description: Mouser-Link; ComponentLink1URL: https://www.mouser.de/ProductDetail/?qs=JjVXkE9rtn3LiD%2FvDfFGZw%3D%3D; ComponentLink2Description: Datasheet; ComponentLink2URL: https://www.mouser.de/datasheet/2/90/XLampXML_Color-1147431.pdf; PartNumber: XMLCTW-A2-0000-00C2AAAB1; Power (W): *; Capacitance: *; Resistance: *; Tolerance: *
footprint XMLCTW-A2-0000-00C2AAAB1 (LED Red 630 / Green 535 / Blue 465 / White 4300K)
pins: 1, 2, 3, 4, 5, 6, 7, 8

## XPEBGR-L1-0000-00E01
designator D?
LED Green / enlarged pads for soldering; Manufacturer_Name: Cree; Current: 350; Viewing Angle: 130; Datasheet Link: https://componentsearchengine.com/Datasheets/1/XPEBGR-L1-0000-00E01.pdf; Height: 2.39mm; Manufacturer_Part_Number: XPEBGR-L1-0000-00E01; ComponentLink1Description: Datasheet; ComponentLink1URL: https://www.mouser.de/datasheet/2/90/XLampXPE2-253473.pdf; ComponentLink2Description: Mouser-Link; ComponentLink2URL: https://www.mouser.de/ProductDetail/Cree-Inc/XPEBGR-L1-0000-00E01?qs=4eCRDsWa%2FRBTNYCllBeMLg==
footprint XPEB LED Cree (enlarged pads for soldering); pin to pad 0>1 1>2
pins: 0, 1

## XPEBRD-L1-R250-00502
designator D?
LED Red / enlarged pads for soldering; Manufacturer_Name: Cree; Current: 350; Viewing Angle: 130; Datasheet Link: https://componentsearchengine.com/Datasheets/1/XPEBGR-L1-0000-00E01.pdf; Height: 2.39mm; Manufacturer_Part_Number: XPEBRD-L1-R250-00502; ComponentLink1Description: Mouser-Link; ComponentLink1URL: https://www.mouser.de/ProductDetail/Cree-Inc/XPEBRD-L1-R250-00502?qs=ECrRXB6ZyXOj%2Fyi5lzX7%2FA%3D%3D; ComponentLink2Description: Datasheet; ComponentLink2URL: https://www.mouser.de/datasheet/2/90/XLampXPE2-253473.pdf
footprint XPEB LED Cree (enlarged pads for soldering); pin to pad 0>1 1>2
pins: 0, 1